# Altium footprint library SnapEDApcb.PcbLib: 1 footprints
Each footprint in its own frame and in the unit in brackets; x right, y up, seen from the top. Pads: shape width x height; smd on the part's side, far side on the other; paste and mask are expansions set on the pad; w line width, h text height; cw(c..) or ccw(c..) is an arc to the next point about the centre after c.
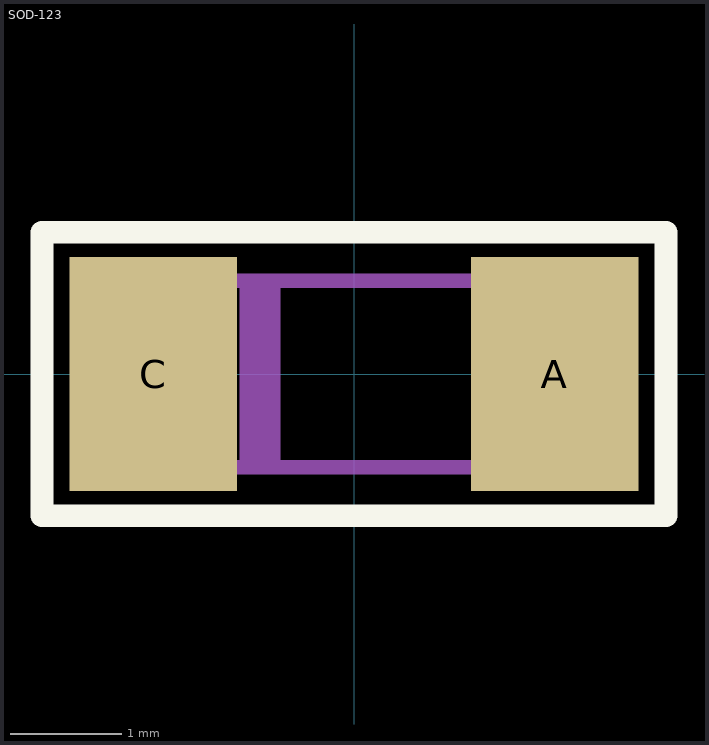
[diagram p0: the footprint, top view; thin cyan lines are the x and y axes]

## SOD-123 [mm]
pads (2):
  rect 1.5x2.1 smd: A(1.8,0) C(-1.8,0)
Top Overlay:
  lines w0.203: -2.794,-1.27 2.794,-1.27 2.794,1.27 -2.794,1.27 -2.794,-1.27
Mechanical 13:
  region: -1.587,-0.9 -1.95,-0.9 -1.95,0.9 -1.587,0.9
  region: 1.95,-0.9 1.587,-0.9 1.587,0.9 1.95,0.9
  region: -0.663,-0.9 -1.025,-0.9 -1.025,0.9 -0.663,0.9
  lines w0.127: -1.873,-0.835 1.873,-0.835 ; -1.873,0.835 1.873,0.835
3D body "MMSZ4684.STEP": height 1.45, standoff 0, extent -1.825,-0.775 1.825,0.775